# Altium footprint library TO-126.PcbLib: 1 footprints
Each footprint in its own frame and in the unit in brackets; x right, y up, seen from the top. Pads: shape width x height; smd on the part's side, far side on the other; paste and mask are expansions set on the pad; w line width, h text height; cw(c..) or ccw(c..) is an arc to the next point about the centre after c.
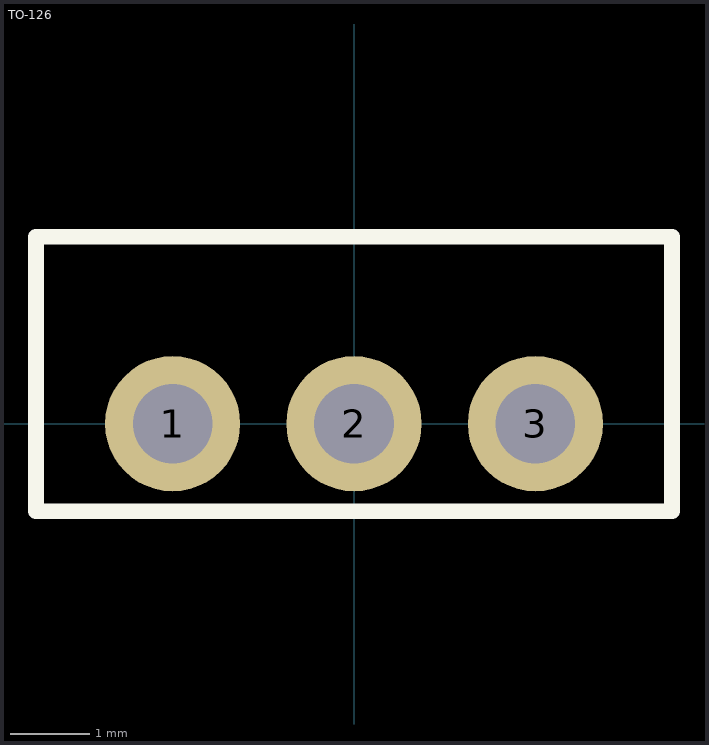
[diagram p0: the footprint, top view; thin cyan lines are the x and y axes]

## TO-126 [mm] "TO, Flat Index; 3 In-Line, Axial Leads; Body 8x3.45mm; Leads 0.51 x 0.85 mm (max)"
height 14.2
pads (3):
  round 1.7 hole 1: 1(-2.28,0) 2(0,0) 3(2.28,0)
Top Overlay:
  lines w0.2: -4,-1.1 4,-1.1 4,2.35 -4,2.35 -4,-1.1
3D body: height 17.2, standoff -9.44, extent -3.9,-1 3.9,1.8